# EAGLE library part 74HCT573D,652 (library NXP_By_element14_Batch_1)
Octal D-type transparent latch 3-state
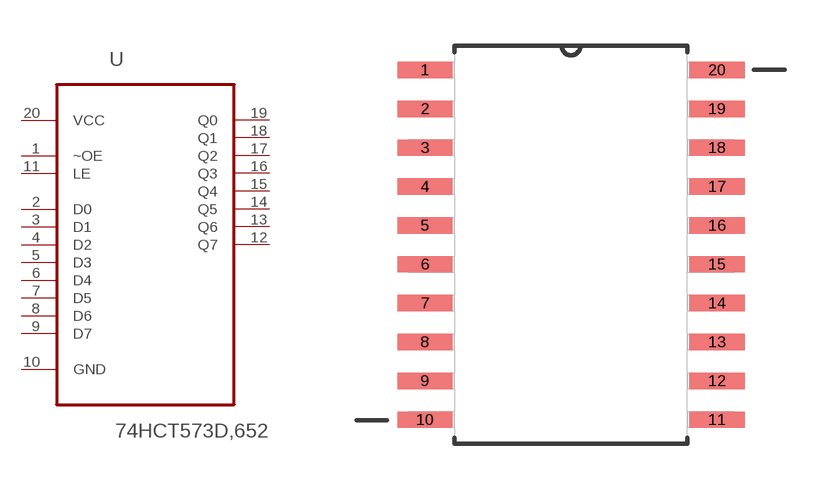
[diagram p209: symbol with the pads of SOIC127X1032X265-20N; footprint SOIC127X1032X265-20N]

Designator prefix U

## 74HCT573D,652 (MPN: 74HCT573D,652; OC_FARNELL: 1826572; OC_NEWARK: 71R1775; P1I: o; PACKAGE: SO-20; SUPPLIER: NXP)  [SOIC127X1032X265-20N]
1  ~OE  in
2  D0  in
3  D1  in
4  D2  in
5  D3  in
6  D4  in
7  D5  in
8  D6  in
9  D7  in
10  GND  pas
11  LE  in
12  Q7  out
13  Q6  out
14  Q5  out
15  Q4  out
16  Q3  out
17  Q2  out
18  Q1  out
19  Q0  out
20  VCC  pwr

## Footprint SOIC127X1032X265-20N (pad centres in mm)
smd 1.803 x 0.533: 1 -4.775,5.715; 2 -4.775,4.445; 3 -4.775,3.175; 4 -4.775,1.905; 5 -4.775,0.635; 6 -4.775,-0.635; 7 -4.775,-1.905; 8 -4.775,-3.175; 9 -4.775,-4.445; 10 -4.775,-5.715; 11 4.775,-5.715; 12 4.775,-4.445; 13 4.775,-3.175; 14 4.775,-1.905; 15 4.775,-0.635; 16 4.775,0.635; 17 4.775,1.905; 18 4.775,3.175; 19 4.775,4.445; 20 4.775,5.715